# EAGLE library part ROB-14450 (library fish)
Check availability <https://pricing.snapeda.com/parts/ROB-14450/SparkFun%20Electronics/view-part?ref=eda>
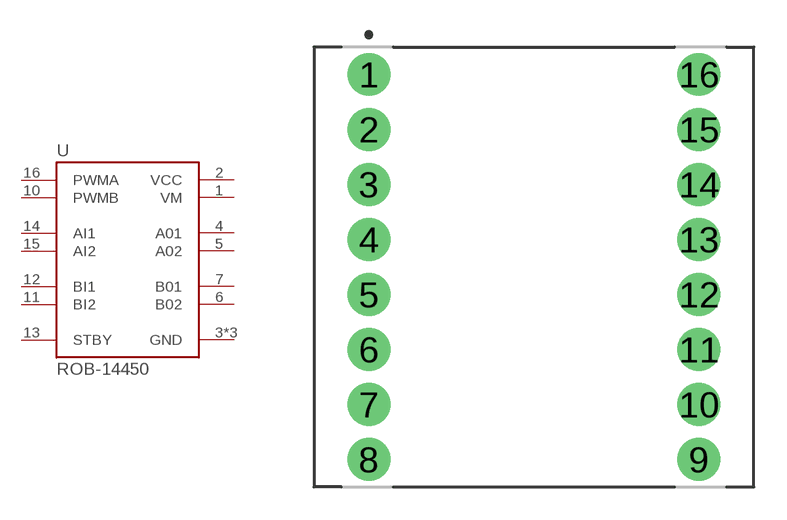
[diagram p1: symbol with the pads of MODULE_ROB-14450; footprint MODULE_ROB-14450]

Designator prefix U

## ROB-14450 (AVAILABILITY: Not in stock; CHECK_PRICES: https://www.snapeda.com/parts/ROB-14450/SparkFun/view-part/?ref=eda; DESCRIPTION: TB6612FNG - Motor Controller/Driver Power Management Evaluation Board; MF: SparkFun Electronics; MP: ROB-14450; PACKAGE: None; PRICE: None; PURCHASE-URL: https://www.snapeda.com/api/url_track_click_mouser/?unipart_id=2656367&manufacturer=SparkFun Electronics&part_name=ROB-14450&search_term=None; SNAPEDA_LINK: https://www.snapeda.com/parts/ROB-14450/SparkFun/view-part/?ref=snap)  [MODULE_ROB-14450]
1  VM  pwr
2  VCC  pwr
3  GND  pwr
4  A01  out
5  A02  out
6  B02  out
7  B01  out
8  GND  pwr
9  GND  pwr
10  PWMB  in
11  BI2  in
12  BI1  in
13  STBY  in
14  AI1  in
15  AI2  in
16  PWMA  in

## Footprint MODULE_ROB-14450 (pad centres in mm)
drill 1.32: 1 -7.62,8.89; 2 -7.62,6.35; 3 -7.62,3.81; 4 -7.62,1.27; 5 -7.62,-1.27; 6 -7.62,-3.81; 7 -7.62,-6.35; 8 -7.62,-8.89; 9 7.62,-8.89; 10 7.62,-6.35; 11 7.62,-3.81; 12 7.62,-1.27; 13 7.62,1.27; 14 7.62,3.81; 15 7.62,6.35; 16 7.62,8.89